# EAGLE library part GLCD_192X64 (library BARUC)
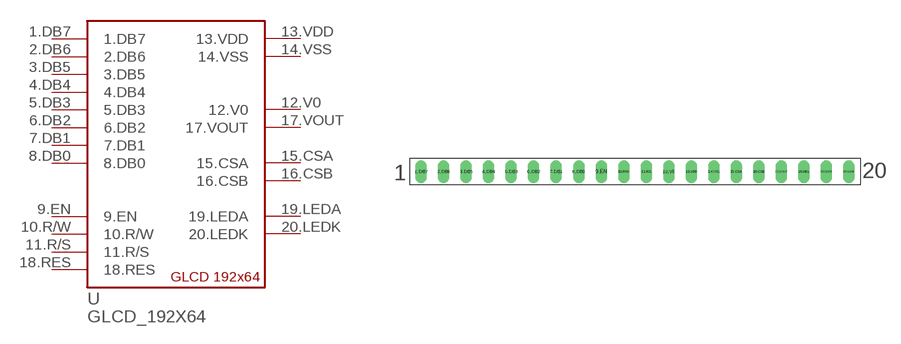
[diagram p2: symbol with the pads of GLCD_192X64; footprint GLCD_192X64]

Designator prefix -

## GLCD_192X64  [GLCD_192X64]
1.DB7  1.DB7
2.DB6  2.DB6
3.DB5  3.DB5
4.DB4  4.DB4
5.DB3  5.DB3
6.DB2  6.DB2
7.DB1  7.DB1
8.DB0  8.DB0
9.EN  9.EN
10.R/W  10.R/W
11.R/S  11.R/S
12.V0  12.V0
13.VDD  13.VDD
14.VSS  14.VSS
15.CSA  15.CSA
16.CSB  16.CSB
17.VOUT  17.VOUT
18.RES  18.RES
19.LEDA  19.LEDA
20.LEDK  20.LEDK

## Footprint GLCD_192X64 (pad centres in mm)
drill 0.8 long: 1.DB7 0,0; 2.DB6 2.54,0; 3.DB5 5.08,0; 4.DB4 7.62,0; 5.DB3 10.16,0; 6.DB2 12.7,0; 7.DB1 15.24,0; 8.DB0 17.78,0; 9.EN 20.32,0; 10.R/W 22.86,0; 11.R/S 25.4,0; 12.V0 27.94,0; 13.VDD 30.48,0; 14.VSS 33.02,0; 15.CSA 35.56,0; 16.CSB 38.1,0; 17.VOUT 40.64,0; 18.RES 43.18,0; 19.LEDA 45.72,0; 20.LEDK 48.26,0